# EAGLE library part ADM3101E (library FSAE Electric)
IC TXRX RS-232 3.3V 15KV 16QSOP
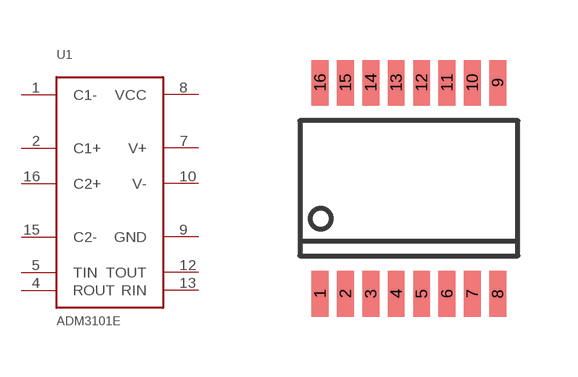
[diagram p46: symbol with the pads of SSOP-16; footprint SSOP-16]

Designator prefix U1

## ADM3101E (PARTNO: ADM3101EARQZ-REEL)  [SSOP-16]
1  C1-
2  C1+
4  ROUT
5  TIN
7  V+
8  VCC
9  GND
10  V-
12  TOUT
13  RIN
15  C2-
16  C2+

## Footprint SSOP-16 (pad centres in mm)
smd 0.419 x 1.143: 1 -2.223,-2.642; 2 -1.587,-2.642; 3 -0.953,-2.642; 4 -0.318,-2.642; 5 0.318,-2.642; 6 0.953,-2.642; 7 1.587,-2.642; 8 2.223,-2.642; 9 2.223,2.642; 10 1.587,2.642; 11 0.953,2.642; 12 0.318,2.642; 13 -0.318,2.642; 14 -0.953,2.642; 15 -1.587,2.642; 16 -2.223,2.642